# EAGLE library part FF32 (library FLYFISH)
FF32, USB I/O chip FLYFISH TECHNOLOGIES http://www.flyfish-tech.com/FF32
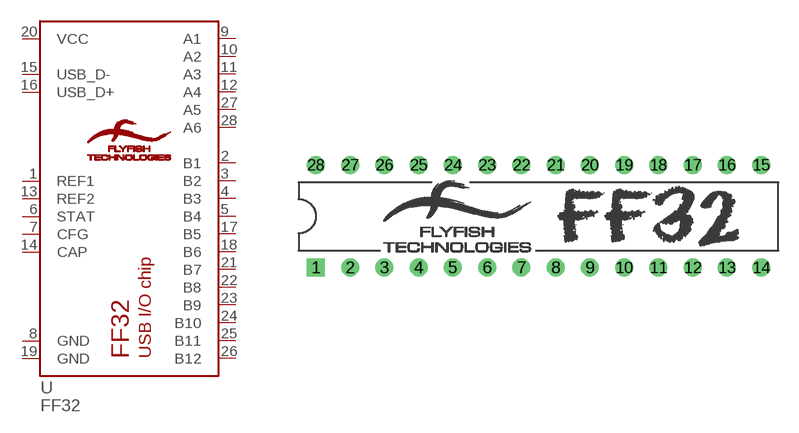
[diagram p0: symbol with the pads of FF32/P; footprint FF32/P]

Designator prefix U

## FF32/P  [FF32/P]
1  REF1  in
2  B1
3  B2
4  B3
5  B4
6  STAT  out
7  CFG  in
8  GND  pwr
9  A1
10  A2
11  A3
12  A4
13  REF2  in
14  CAP  pwr
15  USB_D-
16  USB_D+
17  B5
18  B6
19  GND  pwr
20  VCC  pwr
21  B7
22  B8
23  B9
24  B10
25  B11
26  B12
27  A5
28  A6

## Footprint FF32/P (pad centres in mm)
28 pin, 300 mil, Dual In Line package type P
drill 0.813 square: 1 -16.51,-3.81
drill 0.813: 2 -13.97,-3.81; 3 -11.43,-3.81; 4 -8.89,-3.81; 5 -6.35,-3.81; 6 -3.81,-3.81; 7 -1.27,-3.81; 8 1.27,-3.81; 9 3.81,-3.81; 10 6.35,-3.81; 11 8.89,-3.81; 12 11.43,-3.81; 13 13.97,-3.81; 14 16.51,-3.81; 15 16.51,3.81; 16 13.97,3.81; 17 11.43,3.81; 18 8.89,3.81; 19 6.35,3.81; 20 3.81,3.81; 21 1.27,3.81; 22 -1.27,3.81; 23 -3.81,3.81; 24 -6.35,3.81; 25 -8.89,3.81; 26 -11.43,3.81; 27 -13.97,3.81; 28 -16.51,3.81